# Altium schematic symbol library AnchorBoard_SNS.SchLib: 36 symbols
Pins are listed as number, name and electrical type; pins without a type are passive.

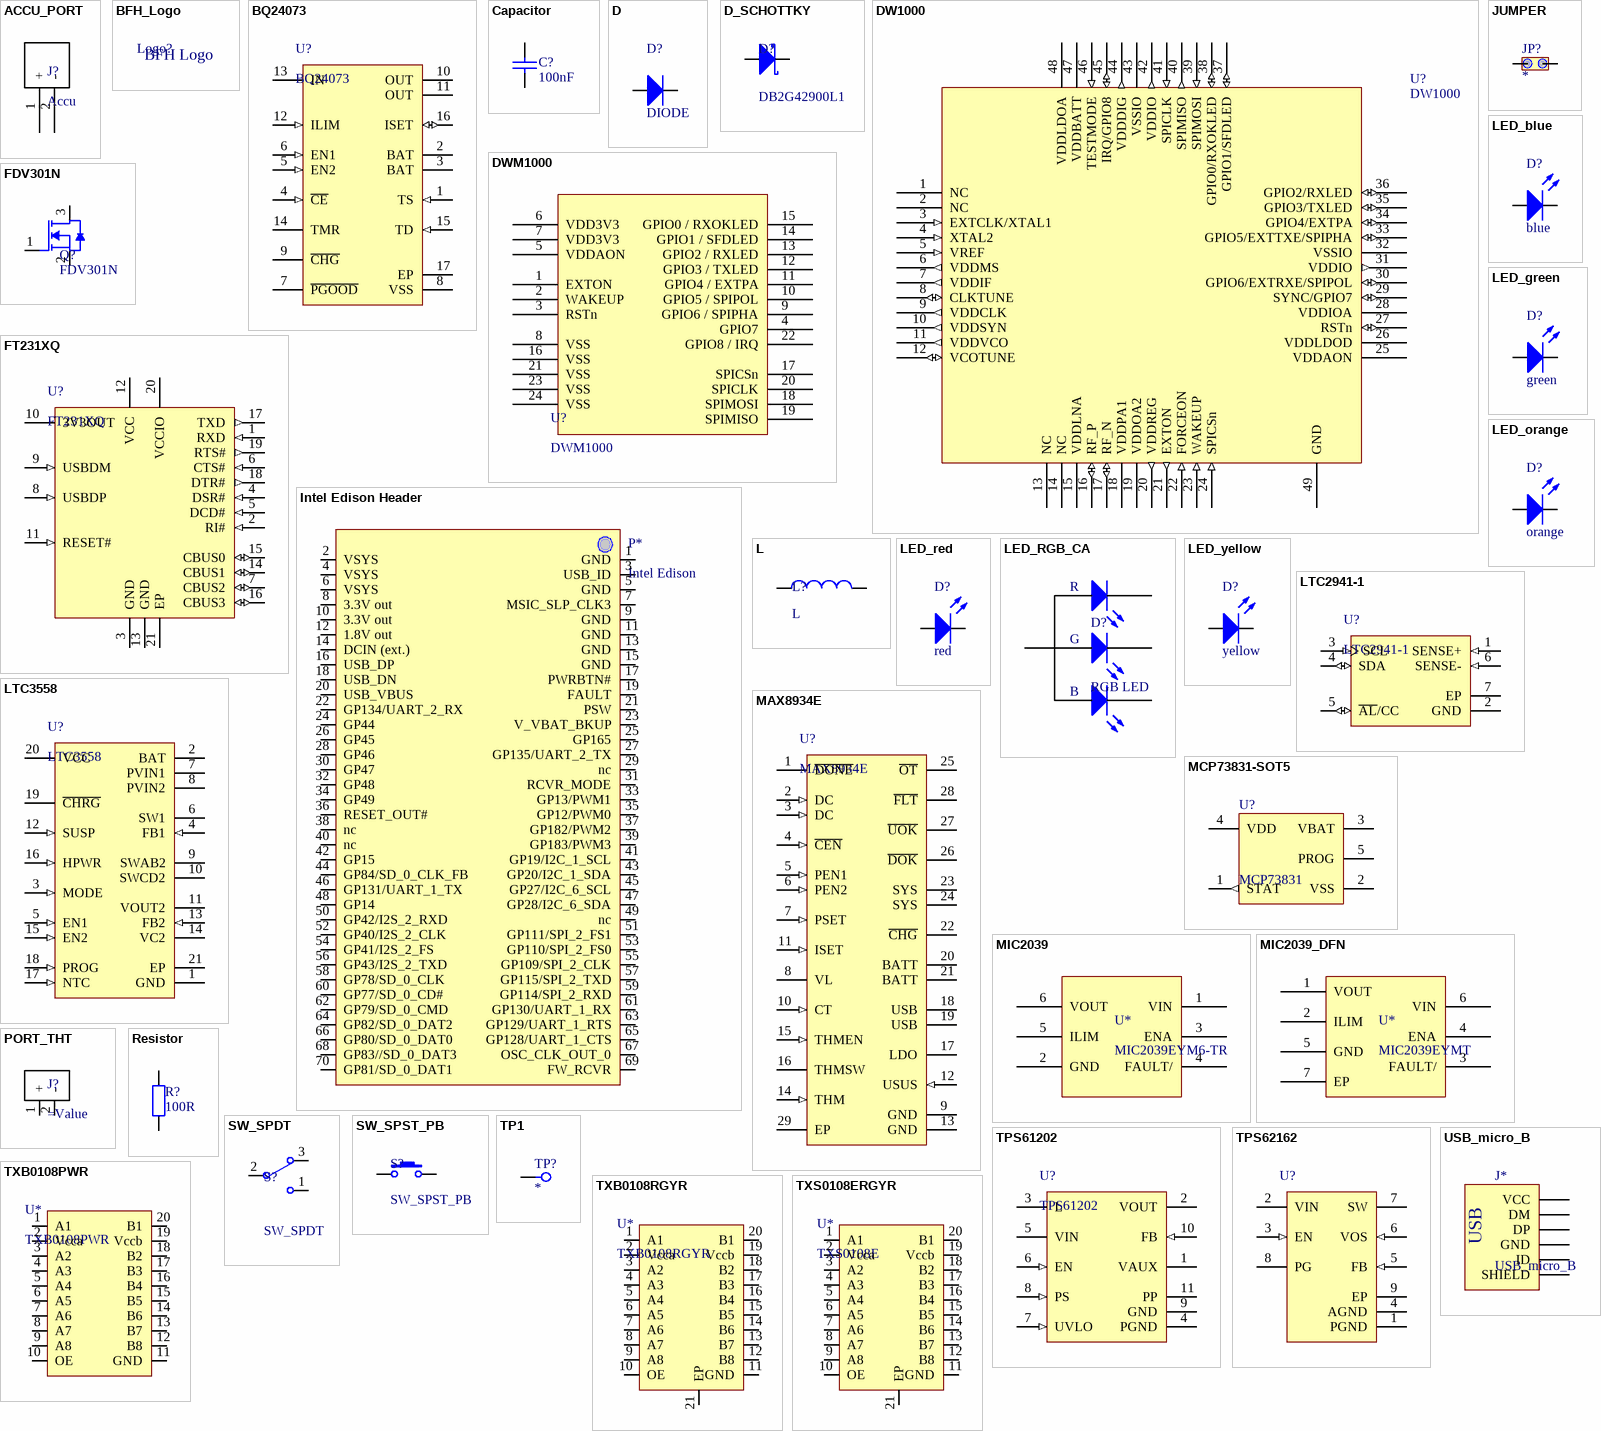
[diagram p0: symbols ACCU_PORT to USB_micro_B]

## ACCU_PORT
designator J?, comment Accu
Accu Port
footprint HDR1X2_V_M (Connector; Header; 2 Position male)
pins: 1 +, 2 -

## BFH_Logo
designator Logo?  (value not drawn)  (graphical)
footprint BFH_Logo
footprint BFH_Logo big
footprint BFH_Logo small
text: BFH Logo

## BQ24073
designator U?
IC LI-ION CHARGE MGMT 16-QFN; Manufacturer Number: BQ24073RGTR; Supplier 2: Digi-Key; Supplier 1: Mouser; Supplier Part Number 1: 595-BQ24073RGTR; Supplier Part Number 2: 296-38872-1-ND
footprint QFN50P31X31X100-17 (VQFN16, BQ24073)
pins: 1 TS (in) "External NTC Thermistor Input. Connect the TS input to the NTC thermistor in the battery pack. TS monitors a 10-k ohm NTC thermistor. For applications that do not utilize the TS function, connect a 10-k ohm fixed resistor (See Datasheet)", 2 BAT (power) "Charger Power Stage Output and Battery Voltage Sense Input. Connect BAT to the positive terminal of the battery. Bypass BAT to VSS with a 4.7-uF to 47-uF ceramic capacitor.", 3 BAT (power) "Charger Power Stage Output and Battery Voltage Sense Input. Connect BAT to the positive terminal of the battery. Bypass BAT to VSS with a 4.7-uF to 47-uF ceramic capacitor.", 4 ~{CE} (in) "Charge Enable Active-Low Input. Connect C\E\ to a high logic level to place the battery charger in standby mode. In standby mode, OUT is active and battery supplement mode is still available. Connect C\E\ to a low logic (See Datasheet)", 5 EN2 (in) "Input Current Limit Configuration Inputs. Use EN1 and EN2 control the maximum input current and enable USB compliance. See Table 2 for the description of the operation states. EN1 and EN2 are internally pulled down with ~285 (See Datasheet)", 6 EN1 (in) "Input Current Limit Configuration Inputs. Use EN1 and EN2 control the maximum input current and enable USB compliance. See Table 2 for the description of the operation states. EN1 and EN2 are internally pulled down with ~285 (See Datasheet)", 7 ~{PGOOD} (hiz) "Open-drain Power Good Status Indication Output. P\G\O\O\D\ pulls to VSS when a valid input source is detected. P\G\O\O\D\ is high-impedance when the input power is not within specified limits. Connect P\G\O\O\D\ to the (See Datasheet)", 8 VSS (power) "Ground. Connect to the thermal pad and to the ground rail of the circuit.", 9 ~{CHG} (hiz) "Open-Drain Charging Status Indication Output. C\H\G\ pulls to VSS when the battery is charging. C\H\G\ is high impedance when charging is complete and when charger is disabled.", 10 OUT (power) "System Supply Output. OUT provides a regulated output when the input is below the OVP threshold and above the regulation voltage. Connect OUT to the system load. Bypass OUT to VSS with a 4.7-uF to 47-uF ceramic capacitor.", 11 OUT (power) "System Supply Output. OUT provides a regulated output when the input is below the OVP threshold and above the regulation voltage. Connect OUT to the system load. Bypass OUT to VSS with a 4.7-uF to 47-uF ceramic capacitor.", 12 ILIM (in) "Adjustable Current Limit Programming Input. Connect a 1100 ohm to 8 k ohm resistor from ILIM to VSS to program the maximum input current (EN2=1, EN1=0). The input current includes the system load and the battery charge (See Datasheet)", 13 IN (power) "Input Power Connection. Connect IN to the connected to external DC supply (AC adapter or USB port). The input operating range is 4.35 V to 6.6 V. (bq24073)The input can accept voltages up to 26 V without damage but operation (See Datasheet)", 14 TMR "Timer Programming Input. TMR controls the precharge and fast-charge safety timers. Connect TMR to VSS to disable all safety timers. Connect a 18-k ohm to 72-k ohm resistor between TMR and VSS to program the timers a desired (See Datasheet)", 15 TD (in) "Termination Dsable Input. Connect TD high to disable charger termination. Connect TD to VSS to enable charger termination. TD is checked during start-up only and cannot be changed during operation. See the TD section in this (See Datasheet)", 16 ISET (io) "Fast-Charge Current Programming Input. Connect a 590 ohm to 3 k ohm resistor from ISET to VSS to program the fast-charge current level. Charging is disabled if ISET is left unconnected. While charging, the voltage at ISET (See Datasheet)", 17 EP (power) "There is an internal electrical connection exists between the exposed thermal pad and the VSS pin of the device. The thermal pad must be connected to the same potential as the VSS pin on the printed-circuit board. Do not use (See Datasheet)"

## Capacitor
designator C?, comment 100nF
Capacitor SMD; Manufacturer Number: *; Supplier 2: Digi-Key; Supplier 1: Mouser; Supplier Part Number 1: *; Supplier Part Number 2: *; Value: 100nF
pins: 1, 2

## D
designator D?, comment DIODE
Modified_by: BEP; Modified: 10.2008; Reverse_Voltage: *; Power: *; Forward_Current: *; Manufacturer: *
footprint SMC_DO-214AB (Body 7.2x6.2mm)
footprint SMB_DO-214AA (Body 4.6x4mm)
footprint SMA_DO-214AC (Body 4.6x2.8mm)
footprint SOD323 (SC-76; Body 1.8x1.3mm)
footprint SOD123 (Body 2.8x1.8mm)
footprint SOD80 (MELF; Body 3.7x1.6mm)
pins: 1 K, 2 A

## D_SCHOTTKY
designator D?, comment DB2G42900L1
Schottky Diode; Reverse_Voltage: 40V; Manufacturer Number: DB2G42900L1; Supplier 1: Mouser; Supplier 2: Digi-Key; Supplier Part Number 1: 667-DB2G42900L1; Supplier Part Number 2: P18982CT-ND; Value: DB2G42900L1
footprint DIOC1006X10 (Chip Diode 1x0.6mm)
pins: 1 K, 2 A

## DW1000
designator U?
Part Number: U001598; Manufactuer: Maxim; Manufactuer P/N: MX7533JCWE
footprint PGA68X11_SKT
pins: 1 NC, 2 NC, 3 EXTCLK/XTAL1 (in), 4 XTAL2 (in), 5 VREF (in), 6 VDDMS (out), 7 VDDIF (out), 8 CLKTUNE (io), 9 VDDCLK (out), 10 VDDSYN (out), 11 VDDVCO (out), 12 VCOTUNE (io), 13 NC, 14 NC, 15 VDDLNA (power), 16 RF_P (io), 17 RF_N (io), 18 VDDPA1 (power), 19 VDDOA2 (power), 20 VDDREG (out), 21 EXTON (out), 22 FORCEON (in), 23 WAKEUP (in), 24 SPICSn (in), 25 VDDAON (power), 26 VDDLDOD (power), 27 RSTn (io), 28 VDDIOA (power), 29 SYNC/GPIO7 (io), 30 GPIO6/EXTRXE/SPIPOL (io), 31 VDDIO (out), 32 VSSIO (power), 33 GPIO5/EXTTXE/SPIPHA (io), 34 GPIO4/EXTPA (io), 35 GPIO3/TXLED (io), 36 GPIO2/RXLED (io), 37 GPIO1/SFDLED (io), 38 GPIO0/RXOKLED (io), 39 SPIMOSI (in), 40 SPIMISO (out), 41 SPICLK (in), 42 VDDIO (out), 43 VSSIO (power), 44 VDDDIG (out), 45 IRQ/GPIO8 (io), 46 TESTMODE (in), 47 VDDBATT (power), 48 VDDLDOA (power), 49 GND (power)

## DWM1000
designator U?
MOD IEEE802.15.4-2011 UWB TXRX; Supplier Part Number 2: 1479-1002-1-ND; Supplier 2: Digi-Key; Manufacturer Number: DWM1000; Value: DWM1000; Supplier 1: Mouser
footprint DECAWAVE_DWM1000 (DecaWave DWM1000 module)
pins: 1 EXTON, 2 WAKEUP, 3 RSTn, 4 GPIO7, 5 VDDAON, 6 VDD3V3, 7 VDD3V3, 8 VSS, 9 GPIO6 / SPIPHA, 10 GPIO5 / SPIPOL, 11 GPIO4 / EXTPA, 12 GPIO3 / TXLED, 13 GPIO2 / RXLED, 14 GPIO1 / SFDLED, 15 GPIO0 / RXOKLED, 16 VSS, 17 SPICSn, 18 SPIMOSI, 19 SPIMISO, 20 SPICLK, 21 VSS, 22 GPIO8 / IRQ, 23 VSS, 24 VSS

## FDV301N
designator Q?
N-Channel MOSFET; Supplier 1: Mouser; Supplier Part Number 1: 512-FDV301N; Manufacturer Number: FDV301N; Supplier 2: Digi-Key; Supplier Part Number 2: FDV301NCT-ND
footprint SOT190P360X120-3 (3 Pin)
pins: 1 G, 2 S, 3 D

## FT231XQ
designator U?
IC USB SERIAL FULL UART 20QFN; Manufacturer Number: FT231XQ-R; Supplier 2: Digi-Key; Supplier 1: Mouser; Supplier Part Number 1: 895-FT231XQ-R; Supplier Part Number 2: 768-1128-1-ND
footprint QFN50P40X40X80-21 (FT231XQ)
pins: 1 RXD (in) "Receiving Asynchronous Data Input.", 2 RI# (in) "Ring Indicator input for remote wake up.", 3 GND (power) "0V Ground input.", 4 DSR# (in) "Data Set Ready Control Input / Handshake Signal.", 5 DCD# (in) "Data Carrier Detect Control Input.", 6 CTS# (in) "Clear To Send Control Input / Handshake Signal.", 7 CBUS2 (io) "Configurable CBUS I/O Pin. Function of this pin is configured in the device MTP memory. The default configuration is TXLED#.", 8 USBDP (in) "USB Data Signal Plus.", 9 USBDM (in) "USB Data Signal Minus.", 10 3V3OUT (power) "3V3 output at 50mA. May be used to power VCCIO. When VCC is 3V3; pin 10 is an input pin and should be connected to pin 12.", 11 RESET# (in) "Reset input (active low).", 12 VCC (power) "5 V (or 3V3) supply to IC.", 13 GND (power) "0V Ground input.", 14 CBUS1 (io) "Configurable CBUS I/O Pin. Function of this pin is configured in the device MTP memory. The default configuration is RXLED#.", 15 CBUS0 (io) "Configurable CBUS I/O Pin. Function of this pin is configured in the device MTP memory. The default configuration is TXDEN.", 16 CBUS3 (io) "Configurable CBUS I/O Pin. Function of this pin is configured in the device MTP memory. The default configuration is SLEEP#.", 17 TXD (out) "Transmit Asynchronous Data Output.", 18 DTR# (out) "Data Terminal Ready Control Output / Handshake Signal.", 19 RTS# (out) "Request to Send Control Output / Handshake Signal.", 20 VCCIO (power) "1V8 -3V3 supply for the IO cells.", 21 EP (power) "Exposed Pad. Connect to GND."

## Intel Edison Header
designator P*, comment Intel Edison
Intel Edison Header, 70-Pin Dual row; Manufacturer Number: DF40C-70DS-0.4V(51); Supplier 2: Digi-Key; Supplier Part Number 2: H11631CT-ND; Supplier Part Number 1: 798-DF40C70DS04V51; Supplier 1: Mouser
footprint HDRV70W12P40_2X35
footprint HDRV70W12P40_2X35_Edison (Header for Intel Edison)
pins: 1 GND (power), 2 VSYS (power), 3 USB_ID (power), 4 VSYS (power), 5 GND (power), 6 VSYS (power), 7 MSIC_SLP_CLK3 (power), 8 3.3V out (power), 9 GND (power), 10 3.3V out (power), 11 GND (power), 12 1.8V out (power), 13 GND (power), 14 DCIN (ext.) (power), 15 GND (power), 16 USB_DP (power), 17 PWRBTN# (power), 18 USB_DN (power), 19 FAULT (power), 20 USB_VBUS (power), 21 PSW (power), 22 GP134/UART_2_RX (power), 23 V_VBAT_BKUP (power), 24 GP44 (power), 25 GP165 (power), 26 GP45 (power), 27 GP135/UART_2_TX (power), 28 GP46 (power), 29 nc (power), 30 GP47 (power), 31 RCVR_MODE (power), 32 GP48 (power), 33 GP13/PWM1 (power), 34 GP49 (power), 35 GP12/PWM0 (power), 36 RESET_OUT# (power), 37 GP182/PWM2 (power), 38 nc (power), 39 GP183/PWM3 (power), 40 nc (power), 41 GP19/I2C_1_SCL (power), 42 GP15 (power), 43 GP20/I2C_1_SDA (power), 44 GP84/SD_0_CLK_FB (power), 45 GP27/I2C_6_SCL (power), 46 GP131/UART_1_TX (power), 47 GP28/I2C_6_SDA (power), 48 GP14 (power), 49 nc (power), 50 GP42/I2S_2_RXD (power), 51 GP111/SPI_2_FS1 (power), 52 GP40/I2S_2_CLK (power), 53 GP110/SPI_2_FS0 (power), 54 GP41/I2S_2_FS (power), 55 GP109/SPI_2_CLK (power), 56 GP43/I2S_2_TXD (power), 57 GP115/SPI_2_TXD (power), 58 GP78/SD_0_CLK (power), 59 GP114/SPI_2_RXD (power), 60 GP77/SD_0_CD# (power), 61 GP130/UART_1_RX (power), 62 GP79/SD_0_CMD (power), 63 GP129/UART_1_RTS (power), 64 GP82/SD_0_DAT2 (power), 65 GP128/UART_1_CTS (power), 66 GP80/SD_0_DAT0 (power), 67 OSC_CLK_OUT_0 (power), 68 GP83//SD_0_DAT3 (power), 69 FW_RCVR (power), 70 GP81/SD_0_DAT1 (power)

## JUMPER
designator JP?
Jumper; Values: *; Order Nbr: *; Distributor: *; Manufacturer: *; Divers: *; Price: *; Marking: *
footprint HDR1X2_V_M (Connector; Header; 2 Position male)
pins: 1, 2

## L
designator L?
Inductor; Modified_by: BEP; Modified: 10.2008
footprint INDM2929X140 (coilcraft inductor lps3015)
pins: 1, 2

## LED_blue
designator D?, comment blue
Light Emitting Diode; Manufacturer Number: LTST-C190TBKT; Manufacturer: Lite-On; Forward_Current: 20mA; Modified_by: bunto1; Forward_Voltage: 3V; Modified: 15.04.2016; Color: blue; Supplier 1: Mouser; Supplier Part Number 1: 859-LTST-C190TBKT; Supplier 2: Digi-Key; Supplier Part Number 2: 160-1646-1-ND
footprint LEDM1608X80 (LED; 1.6x0.8mm)
pins: 1 A, 2 K

## LED_green
designator D?, comment green
Light Emitting Diode; Manufacturer Number: LTST-C190KGKT; Manufacturer: Lite-On; Forward_Current: 20mA; Modified_by: bunto1; Forward_Voltage: 2V; Modified: 15.04.2016; Color: green; Supplier 1: Mouser; Supplier Part Number 1: 859-LTST-C190KGKT; Supplier 2: Digi-Key; Supplier Part Number 2: 160-1435-1-ND
footprint LEDM1608X80 (LED; 1.6x0.8mm)
pins: 1 A, 2 K

## LED_orange
designator D?, comment orange
Light Emitting Diode; Manufacturer Number: LTST-C190KFKT; Manufacturer: Lite-On; Forward_Current: 20mA; Modified_by: bunto1; Forward_Voltage: 2V; Modified: 15.04.2016; Color: orange; Supplier 1: Mouser; Supplier Part Number 1: 859-LTST-C190KFKT; Supplier 2: Digi-Key; Supplier Part Number 2: 160-1434-1-ND
footprint LEDM1608X80 (LED; 1.6x0.8mm)
pins: 1 A, 2 K

## LED_red
designator D?, comment red
Light Emitting Diode; Manufacturer Number: LTST-C190KRKT; Manufacturer: Lite-On; Forward_Current: 20mA; Modified_by: bunto1; Forward_Voltage: 2V; Modified: 15.04.2016; Color: red; Supplier 1: Mouser; Supplier Part Number 1: 859-LTST-C190KRKT; Supplier 2: Digi-Key; Supplier Part Number 2: 160-1436-1-ND
footprint LEDM1608X80 (LED; 1.6x0.8mm)
pins: 1 A, 2 K

## LED_RGB_CA
designator D?, comment RGB LED
RGB LED with common Anode; Manufacturer Number: CLVBA-FKA-CAEDH8BBB7A363; Supplier 1: Mouser; Supplier Part Number 1: 941-VBAFKACAEDH8B7A3; Supplier Part Number 2: CLVBA-FKA-CAEDH8BBB7A363CT-ND; Supplier 2: Digi-Key
footprint PLCC160P350X280X190-4
pins: 1 K1, 2 A, 3 K3, 4 K2
text: R; G; B

## LED_yellow
designator D?, comment yellow
Light Emitting Diode; Manufacturer Number: LTST-C190KSKT; Manufacturer: Lite-On; Forward_Current: 20mA; Modified_by: bunto1; Forward_Voltage: 2V; Modified: 15.04.2016; Color: yellow; Supplier 1: Mouser; Supplier Part Number 1: 859-LTST-C190KSKT; Supplier 2: Digi-Key; Supplier Part Number 2: 160-1437-1-ND
footprint LEDM1608X80 (LED; 1.6x0.8mm)
pins: 1 A, 2 K

## LTC2941-1
designator U?
IC FUEL/GAS GAUGE LI-ION 1A 6DFN; Manufacturer Number: LTC2941IDCB-1#TRMPBF; Value: LTC2941-1; Supplier 2: Digi-Key; Supplier Part Number 2: LTC2941IDCB-1#TRMPBFCT-ND; Supplier 1: Mouser
footprint DFN30X20X80-6 (SON, 6-Leads, Body 3x2mm, Pitch 0.5mm, Thermal Pad 1.65x1.35mm)
pins: 1 SENSE+ (in) "Positive Current Sense Input and Power Supply. Connect to the load/charger side of the sense resistor. VSENSE+ operating range is 2.7V to 5.5V.", 2 GND (power) "Device Ground. Connect directly to the negative battery terminal.", 3 SCL (in) "Serial Bus Clock Input.", 4 SDA (io) "Serial Bus Data Input and Output.", 5 ~{AL}/CC (io) "Alert Output or Charge Complete Input.", 6 SENSE- (in) "Negative Current Sense Input.", 7 EP "Do Not Connect."

## LTC3558
designator U?
IC USB BATTERY CHARGER 20-QFN; Manufacturer Number: LTC3558EUD#PBF; Supplier Part Number 2: LTC3558EUD#PBF-ND; Supplier 2: Digi-Key
pins: 1 GND (power) "Ground. Connect to Exposed Pad (Pin 21).", 2 BAT (power) "Charge Current Output. Provides charge current to the battery and regulates final float voltage to 4.2 V.", 3 MODE (in) "MODE Pin for Switching Regulators. When held high, both regulators operate in Burst Mode Operation. When held low, the buck regulator operates in pulse skip mode and the buck-boost regulator operates in PWM mode. This pin is (See Datasheet)", 4 FB1 (in) "Buck Regulator Feedback Voltage Pin. Receives feedback by a resistor divider connected across the output.", 5 EN1 (in) "Enable Input Pin for the Buck Regulator. This pin is a high impedance input; do not float. Active high.", 6 SW1 (power) "Buck Regulator Switching Node. External inductor connects to this node.", 7 PVIN1 (power) "Input Supply Pin for Buck Regulator. Connect to BAT and PVIN2. A single 10 uF input decoupling capacitor to GND is required.", 8 PVIN2 (power) "Input Supply Pin for Buck-Boost Regulator. Connect to BAT and PVIN1. A single 10 uF input decoupling capacitor to GND is required.", 9 SWAB2 "Switch Node for Buck-Boost Regulator Connected to the Internal Power Switches A and B. External inductor connects between this node and SWCD2.", 10 SWCD2 "Switch Node for Buck-Boost Regulator Connected to the Internal Power Switches C and D. External inductor connects between this node and SWAB2.", 11 VOUT2 (power) "Regulated Output Voltage for Buck-Boost Regulator.", 12 SUSP (in) "Suspend Battery Charging Operation. A voltage greater than 1.2 V on this pin puts the battery charger in suspend mode, disables the charger and resets the termination timer. A weak pull-down current is internally applied to (See Datasheet)", 13 FB2 (in) "Buck-Boost Regulator Feedback Voltage Pin. Receives feedback by a resistor divider connected across the output.", 14 VC2 "Output of the Error Amplifier and Voltage Compensation Node for the Buck-Boost Regulator. External Type I or Type III compensation (to FB2) connects to this pin.", 15 EN2 (in) "Enable Input Pin for the Buck-Boost Regulator. This pin is a high impedance input; do not float. Active high.", 16 HPWR (in) "High Current Battery Charging Enabled. A voltage greater than 1.2 V at this pin programs the BAT pin current at 100% of the maximum programmed charge current. A voltage less than 0.4 V sets the BAT pin current to 20% of the (See Datasheet)", 17 NTC (in) "Input to the NTC Thermistor Monitoring Circuit. The NTC pin connects to a negative temperature coefficient thermistor which is typically co-packaged with the battery pack to determine if the battery is too hot or too cold to (See Datasheet)", 18 PROG (in) "Charge Current Program and Charge Current Monitor Pin. Charge current is programmed by connecting a resistor from PROG to ground. When charging in constant current mode, the PROG pin servos to 1 V if the HPWR pin is pulled (See Datasheet)", 19 ~{CHRG} (hiz) "Open-Drain Charge Status Output. The C\H\R\G pin indicates the status of the battery charger. Four possible states are represented by C\H\R\G charging, not charging (i.e., the charge current is less than one-tenth of the (See Datasheet)", 20 VCC (power) "Battery Charger Input. A 1 uF decoupling capacitor to GND is recommended.", 21 EP (power) "Ground. The Exposed Pad must be soldered to PCB ground to provide electrical contact and rated thermal performance."

## MAX8934E
designator U?
IC BATTERY CHARGER DUAL 28TQFN; Manufacturer Number: MAX8934EETI+; Supplier 2: Digi-Key; Supplier 1: Mouser; Supplier Part Number 1: 700-MAX8934EETI+; Supplier Part Number 2: MAX8934EETI+-ND
footprint QFN40P40X40X80-29 (TQFN28-EP, T2844+1, MAX8934)
pins: 1 ~{DONE}, 2 DC (in), 3 DC (in), 4 ~{CEN} (in), 5 PEN1 (in), 6 PEN2 (in), 7 PSET (in), 8 VL (power), 9 GND (power), 10 CT (in), 11 ISET (in), 12 USUS (in), 13 GND (power), 14 THM (in), 15 THMEN (in), 16 THMSW, 17 LDO (power), 18 USB (power), 19 USB (power), 20 BATT (power), 21 BATT (power), 22 ~{CHG}, 23 SYS (power), 24 SYS (power), 25 ~{OT} (oc), 26 ~{DOK} (oc), 27 ~{UOK} (oc), 28 ~{FLT} (oc), 29 EP (power)

## MCP73831-SOT5
designator U?, comment MCP73831
MCP73831-SOT5IC CONTROLLR LI-ION 4.2V SOT23-5; Manufacturer Number: MCP73831T-2ACI/OT; Supplier 2: Digi-Key; Supplier 1: Mouser; Supplier Part Number 1: 579-MCP73831T-2ACIOT; Supplier Part Number 2: MCP73831T-2ACI/OTCT-ND
pins: 1 STAT (out), 2 VSS (power), 3 VBAT (power), 4 VDD (power), 5 PROG

## MIC2039
designator U*, comment MIC2039EYM6-TR
Adjustable Current Limit Power Switch; Supplier Part Number 1: 998-MIC2039EYM6TR; Supplier 1: Mouser; Supplier Part Number 2: 576-4192-1-ND; Supplier 2: Digi-Key; Manufacturer Number: MIC2039EYM6
footprint SOT95P360X130-6 (3 Pin)
pins: 1 VIN, 2 GND, 3 ENA, 4 FAULT/, 5 ILIM, 6 VOUT

## MIC2039_DFN
designator U*, comment MIC2039EYMT
Adjustable Current Limit Power Switch; Supplier Part Number 1: 998-MIC2039EYMTT5; Supplier 1: Mouser; Supplier Part Number 2: 576-4221-1-ND; Supplier 2: Digi-Key; Manufacturer Number: MIC2039EYMT
footprint DFN20X20X55-6 (MIC2039)
pins: 1 VOUT, 2 ILIM, 3 FAULT/, 4 ENA, 5 GND, 6 VIN, 7 EP

## PORT_THT
designator J?
2-Pin THT Port
footprint HDR1X2_V_M (Connector; Header; 2 Position male)
pins: 1 +, 2 -

## Resistor
designator R?, comment 100R
Resistor; Value: 100R; Supplier 2: Digi-Key; Supplier 1: Mouser; Manufacturer Number: *; Supplier Part Number 1: *; Supplier Part Number 2: *
footprint RESC1005X35 (Chip Resistor; 1x0.5mm)
pins: 1, 2

## SW_SPDT
designator S?
Switch SPDT; Manufacturer Number: L102021ML04Q; Supplier 1: Mouser; Supplier 2: Digi-Key; Supplier Part Number 1: 611-L102021ML04Q; Supplier Part Number 2: CKC5102-ND
footprint SW_102021ML04Q (SPDT Switch)
pins: 1 ON, 2 COM, 3 ON

## SW_SPST_PB
designator S?
Switch PB; Manufacturer Number: 7914J-1-000E; Supplier 1: Mouser; Supplier 2: Digi-Key; Supplier Part Number 2: 7914J-000ECT-ND; Supplier Part Number 1: 652-7914J-1-000E
footprint SW_7914J-1-000E (BOURNS 7914J-001-000)
pins: 1, 2

## TP1
designator TP?
Test-Point; Values: *; Order Nbr: *; Distributor: *; Manufacturer: *; Divers: *; Price: *; Marking: *
footprint TP_THT (TestPoint, suitable for soldering)
pins: 1 TP

## TPS61202
designator U?
IC REG BOOST 5V 1.2A SYNC 10SON; Manufacturer Number: TPS61202DRCR; Supplier 1: Mouser; Supplier 2: Digi-Key; Value: TPS61202; Supplier Part Number 1: 595-TPS61202DRCR; Supplier Part Number 2: 296-27462-1-ND
footprint SON50P310X310X100-11 (VSON10, TPS61202)
pins: 1 VAUX (power) "Supply voltage for control stage", 2 VOUT (power) "Boost converter output", 3 L (power) "Connection for Inductor", 4 PGND (power) "Power ground", 5 VIN (power) "Boost converter input voltage", 6 EN (in) "Enable input (1: enabled, 0: disabled).", 7 UVLO (in) "Undervoltage lockout comparator input, must be connected to VAUX if not used", 8 PS (in) "Enable/disable Power Save mode (1 : disabled, 0: enabled)", 9 GND (power) "Control / logic ground", 10 FB (in) "Voltage feedback of adjustable versions, must be connected to VOUT at fixed output voltage versions", 11 PP (power) "Must be soldered to achieve appropriate power dissipation. Should be connected to PGND."

## TPS62162
designator U?
IC REG BUCK 3.3V 1A SYNC 8WSON; Manufacturer Number: TPS62162DSGR; Value: TPS62162; Supplier 1: Mouser; Supplier 2: Digi-Key; Supplier Part Number 2: 296-43671-1-ND; Supplier Part Number 1: 595-TPS62162DSGR
footprint SON50P210X210X80-9 (WSON8TP, TPS62162)
pins: 1 PGND (power) "Power ground", 2 VIN (power) "Supply voltage", 3 EN (in) "Enable input (High = enabled, Low = disabled)", 4 AGND (power) "Analog Ground", 5 FB (in) "Voltage feedback of adjustable version. Connect resistive voltage divider to this pin. It is recommended to connect FB to AGND on fixed output voltage versions for improved thermal performance.", 6 VOS (in) "Output voltage sense pin and connection for the control loop circuitry.", 7 SW (power) "Switch node, which is connected to the internal MOSFET switches.Connect inductor between SW and output capacitor.", 8 PG (hiz) "Output power good (High = VOUT ready, Low = VOUT below nominal regulation) ; open drain (requires pull-up resistor; goes high impedance, when device is switched off)", 9 EP (power) "Must be connected to AGND. Must be soldered to achieve appropriate power dissipation and mechanical Thermal Pad reliability."

## TXB0108PWR
designator U*
8-Bit Bidirectional Voltage-Level Translator; Supplier 2: Digi-Key; Supplier Part Number 2: 296-21527-1-ND; Supplier Part Number 1: 595-TXB0108PWR; Supplier 1: Mouser
pins: 1 A1 (power), 2 Vcca (power), 3 A2 (power), 4 A3 (power), 5 A4 (power), 6 A5 (power), 7 A6 (power), 8 A7 (power), 9 A8 (power), 10 OE (power), 11 GND (power), 12 B8 (power), 13 B7 (power), 14 B6 (power), 15 B5 (power), 16 B4 (power), 17 B3 (power), 18 B2 (power), 19 Vccb (power), 20 B1 (power)

## TXB0108RGYR
designator U*
8-Bit Bidirectional Voltage-Level Translator; Supplier 2: Digi-Key; Supplier Part Number 2: 296-21528-1-ND; Supplier Part Number 1: 595-TXB0108RGYR; Supplier 1: Mouser; Manufacturer Number: TXB0108RGYR
footprint QFN50P47X37X100-21 (VQFN, TXB0108RGYR)
pins: 1 A1 (power), 2 Vcca (power), 3 A2 (power), 4 A3 (power), 5 A4 (power), 6 A5 (power), 7 A6 (power), 8 A7 (power), 9 A8 (power), 10 OE (power), 11 GND (power), 12 B8 (power), 13 B7 (power), 14 B6 (power), 15 B5 (power), 16 B4 (power), 17 B3 (power), 18 B2 (power), 19 Vccb (power), 20 B1 (power), 21 EP

## TXS0108ERGYR
designator U*, comment TXS0108E
8-Bit Bidirectional Voltage-Level Translator; Manufacturer Number: TXS0108ERGYR; Supplier 2: Digi-Key; Supplier Part Number 2: 296-24806-1-ND; Supplier Part Number 1: 595-TXS0108ERGYR; Supplier 1: Mouser
footprint QFN50P47X37X100-21 (VQFN, TXB0108RGYR)
pins: 1 A1 (power), 2 Vcca (power), 3 A2 (power), 4 A3 (power), 5 A4 (power), 6 A5 (power), 7 A6 (power), 8 A7 (power), 9 A8 (power), 10 OE (power), 11 GND (power), 12 B8 (power), 13 B7 (power), 14 B6 (power), 15 B5 (power), 16 B4 (power), 17 B3 (power), 18 B2 (power), 19 Vccb (power), 20 B1 (power), 21 EP

## USB_micro_B
designator J*
USB Connectors MICRO USB B RECPT; Manufacturer Number: 47346-0001; Supplier 1: Mouser; Supplier Part Number 1: 538-47346-0001; Supplier 2: Digi-Key; Supplier Part Number 2: WM17141CT-ND
footprint MOLEX_0473460001 (Molex USB Micro B)
pins: 1 VCC, 2 DM, 3 DP, 4 ID, 5 GND, 6 SHIELD
text: USB